# Altium schematic symbol library AntennaStripSymbol.SchLib: 2 symbols
Pins are listed as number, name and electrical type; pins without a type are passive.

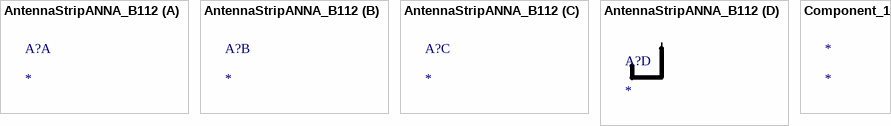
[diagram p0: symbols AntennaStripANNA_B112 to Component_1]

## AntennaStripANNA_B112
designator A?
Schematic for Antenna Strip for ANNA-B112 INTERNAL Antenna when chip is mounted on corner
footprint ChipAntennaANNAB112 (chip antenna for internal antenna of ANNA-B112 when the chip is mounted on the corner)
part D pins: 0

## Component_1
designator *